# EAGLE library part 284-1273-00-1102JH (library PLCC-44)
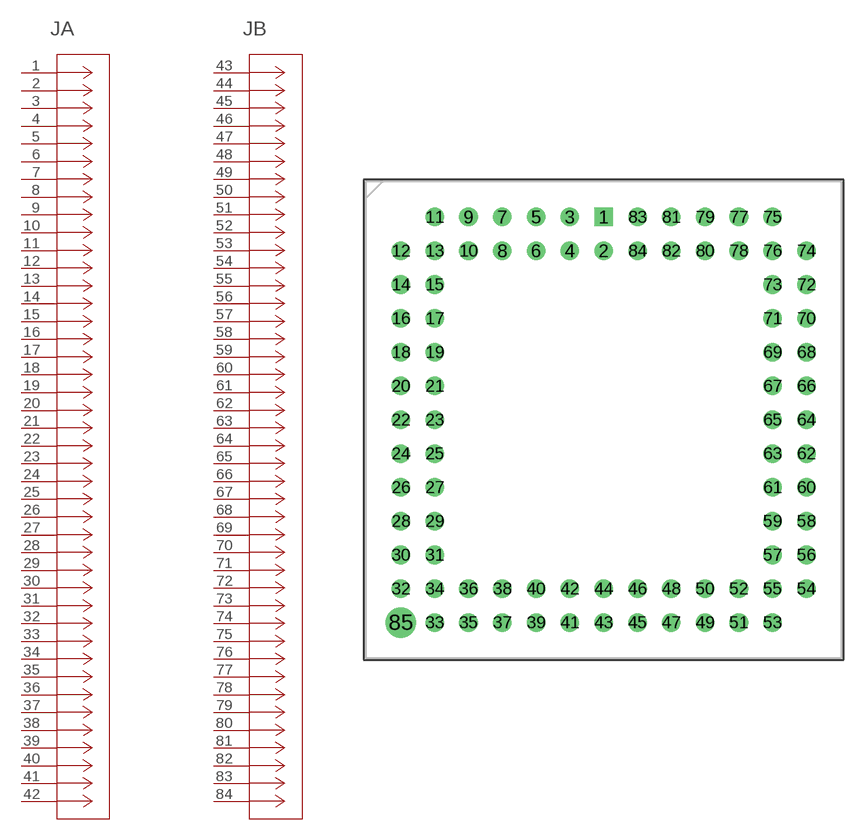
[diagram p1: symbol with the pads of CONN_284-1273-00-1102JH_3MM; footprint CONN_284-1273-00-1102JH_3MM]

Designator prefix J; gates A=CONN_042P_000C_1 B=CONN_084P_000C_4

## 284-1273-00-1102JH (COPYRIGHT: Copyright (C) 2024 Ultra Librarian. All rights reserved.; MANUFACTURER_PART_NUMBER: 284-1273-00-1102JH; MFR_NAME: 3M; TYPE: IC Sockets)  [CONN_284-1273-00-1102JH_3MM]
1  A:1  pas
2  A:2  pas
3  A:3  pas
4  A:4  pas
5  A:5  pas
6  A:6  pas
7  A:7  pas
8  A:8  pas
9  A:9  pas
10  A:10  pas
11  A:11  pas
12  A:12  pas
13  A:13  pas
14  A:14  pas
15  A:15  pas
16  A:16  pas
17  A:17  pas
18  A:18  pas
19  A:19  pas
20  A:20  pas
21  A:21  pas
22  A:22  pas
23  A:23  pas
24  A:24  pas
25  A:25  pas
26  A:26  pas
27  A:27  pas
28  A:28  pas
29  A:29  pas
30  A:30  pas
31  A:31  pas
32  A:32  pas
33  A:33  pas
34  A:34  pas
35  A:35  pas
36  A:36  pas
37  A:37  pas
38  A:38  pas
39  A:39  pas
40  A:40  pas
41  A:41  pas
42  A:42  pas
43  B:43  pas
44  B:44  pas
45  B:45  pas
46  B:46  pas
47  B:47  pas
48  B:48  pas
49  B:49  pas
50  B:50  pas
51  B:51  pas
52  B:52  pas
53  B:53  pas
54  B:54  pas
55  B:55  pas
56  B:56  pas
57  B:57  pas
58  B:58  pas
59  B:59  pas
60  B:60  pas
61  B:61  pas
62  B:62  pas
63  B:63  pas
64  B:64  pas
65  B:65  pas
66  B:66  pas
67  B:67  pas
68  B:68  pas
69  B:69  pas
70  B:70  pas
71  B:71  pas
72  B:72  pas
73  B:73  pas
74  B:74  pas
75  B:75  pas
76  B:76  pas
77  B:77  pas
78  B:78  pas
79  B:79  pas
80  B:80  pas
81  B:81  pas
82  B:82  pas
83  B:83  pas
84  B:84  pas

## Footprint CONN_284-1273-00-1102JH_3MM (pad centres in mm)
drill 0.889 pad 1.397 square: 1 0,0
drill 0.889 pad 1.397: 2 0,-2.54; 3 -2.54,0; 4 -2.54,-2.54; 5 -5.08,0; 6 -5.08,-2.54; 7 -7.62,0; 8 -7.62,-2.54; 9 -10.16,0; 10 -10.16,-2.54; 11 -12.7,0; 12 -15.24,-2.54; 13 -12.7,-2.54; 14 -15.24,-5.08; 15 -12.7,-5.08; 16 -15.24,-7.62; 17 -12.7,-7.62; 18 -15.24,-10.16; 19 -12.7,-10.16; 20 -15.24,-12.7; 21 -12.7,-12.7; 22 -15.24,-15.24; 23 -12.7,-15.24; 24 -15.24,-17.78; 25 -12.7,-17.78; 26 -15.24,-20.32; 27 -12.7,-20.32; 28 -15.24,-22.86; 29 -12.7,-22.86; 30 -15.24,-25.4; 31 -12.7,-25.4; 32 -15.24,-27.94; 33 -12.7,-30.48; 34 -12.7,-27.94; 35 -10.16,-30.48; 36 -10.16,-27.94; 37 -7.62,-30.48; 38 -7.62,-27.94; 39 -5.08,-30.48; 40 -5.08,-27.94; 41 -2.54,-30.48; 42 -2.54,-27.94; 43 0,-30.48; 44 0,-27.94; 45 2.54,-30.48; 46 2.54,-27.94; 47 5.08,-30.48; 48 5.08,-27.94; 49 7.62,-30.48; 50 7.62,-27.94; 51 10.16,-30.48; 52 10.16,-27.94; 53 12.7,-30.48; 54 15.24,-27.94; 55 12.7,-27.94; 56 15.24,-25.4; 57 12.7,-25.4; 58 15.24,-22.86; 59 12.7,-22.86; 60 15.24,-20.32; 61 12.7,-20.32; 62 15.24,-17.78; 63 12.7,-17.78; 64 15.24,-15.24; 65 12.7,-15.24; 66 15.24,-12.7; 67 12.7,-12.7; 68 15.24,-10.16; 69 12.7,-10.16; 70 15.24,-7.62; 71 12.7,-7.62; 72 15.24,-5.08; 73 12.7,-5.08; 74 15.24,-2.54; 75 12.7,0; 76 12.7,-2.54; 77 10.16,0; 78 10.16,-2.54; 79 7.62,0; 80 7.62,-2.54; 81 5.08,0; 82 5.08,-2.54; 83 2.54,0; 84 2.54,-2.54
drill 1.524 pad 1.524: 85 -15.24,-30.48